# EAGLE library part MAX14870 (library Rwanda-Sensor-Breakout)
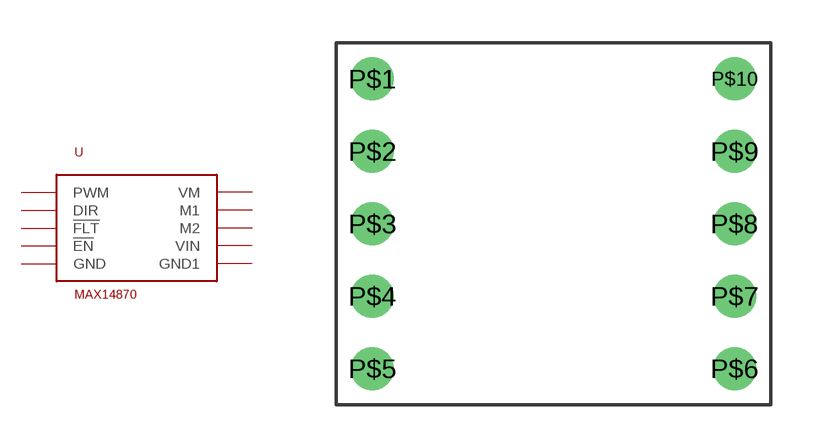
[diagram p0: symbol with the pads of MAX14870-BREAKOUT; footprint MAX14870-BREAKOUT]

Designator prefix -

## MAX14870  [MAX14870-BREAKOUT]
P$1  PWM
P$2  DIR
P$3  !FLT
P$4  !EN
P$5  GND
P$6  GND1
P$7  VIN
P$8  M2
P$9  M1
P$10  VM

## Footprint MAX14870-BREAKOUT (pad centres in mm)
drill 1: P$1 -6.35,5.08; P$2 -6.35,2.54; P$3 -6.35,0; P$4 -6.35,-2.54; P$5 -6.35,-5.08; P$6 6.35,-5.08; P$7 6.35,-2.54; P$8 6.35,0; P$9 6.35,2.54; P$10 6.35,5.08